# Altium schematic symbol library X.SchLib: 79 symbols
Pins are listed as number, name and electrical type; pins without a type are passive.

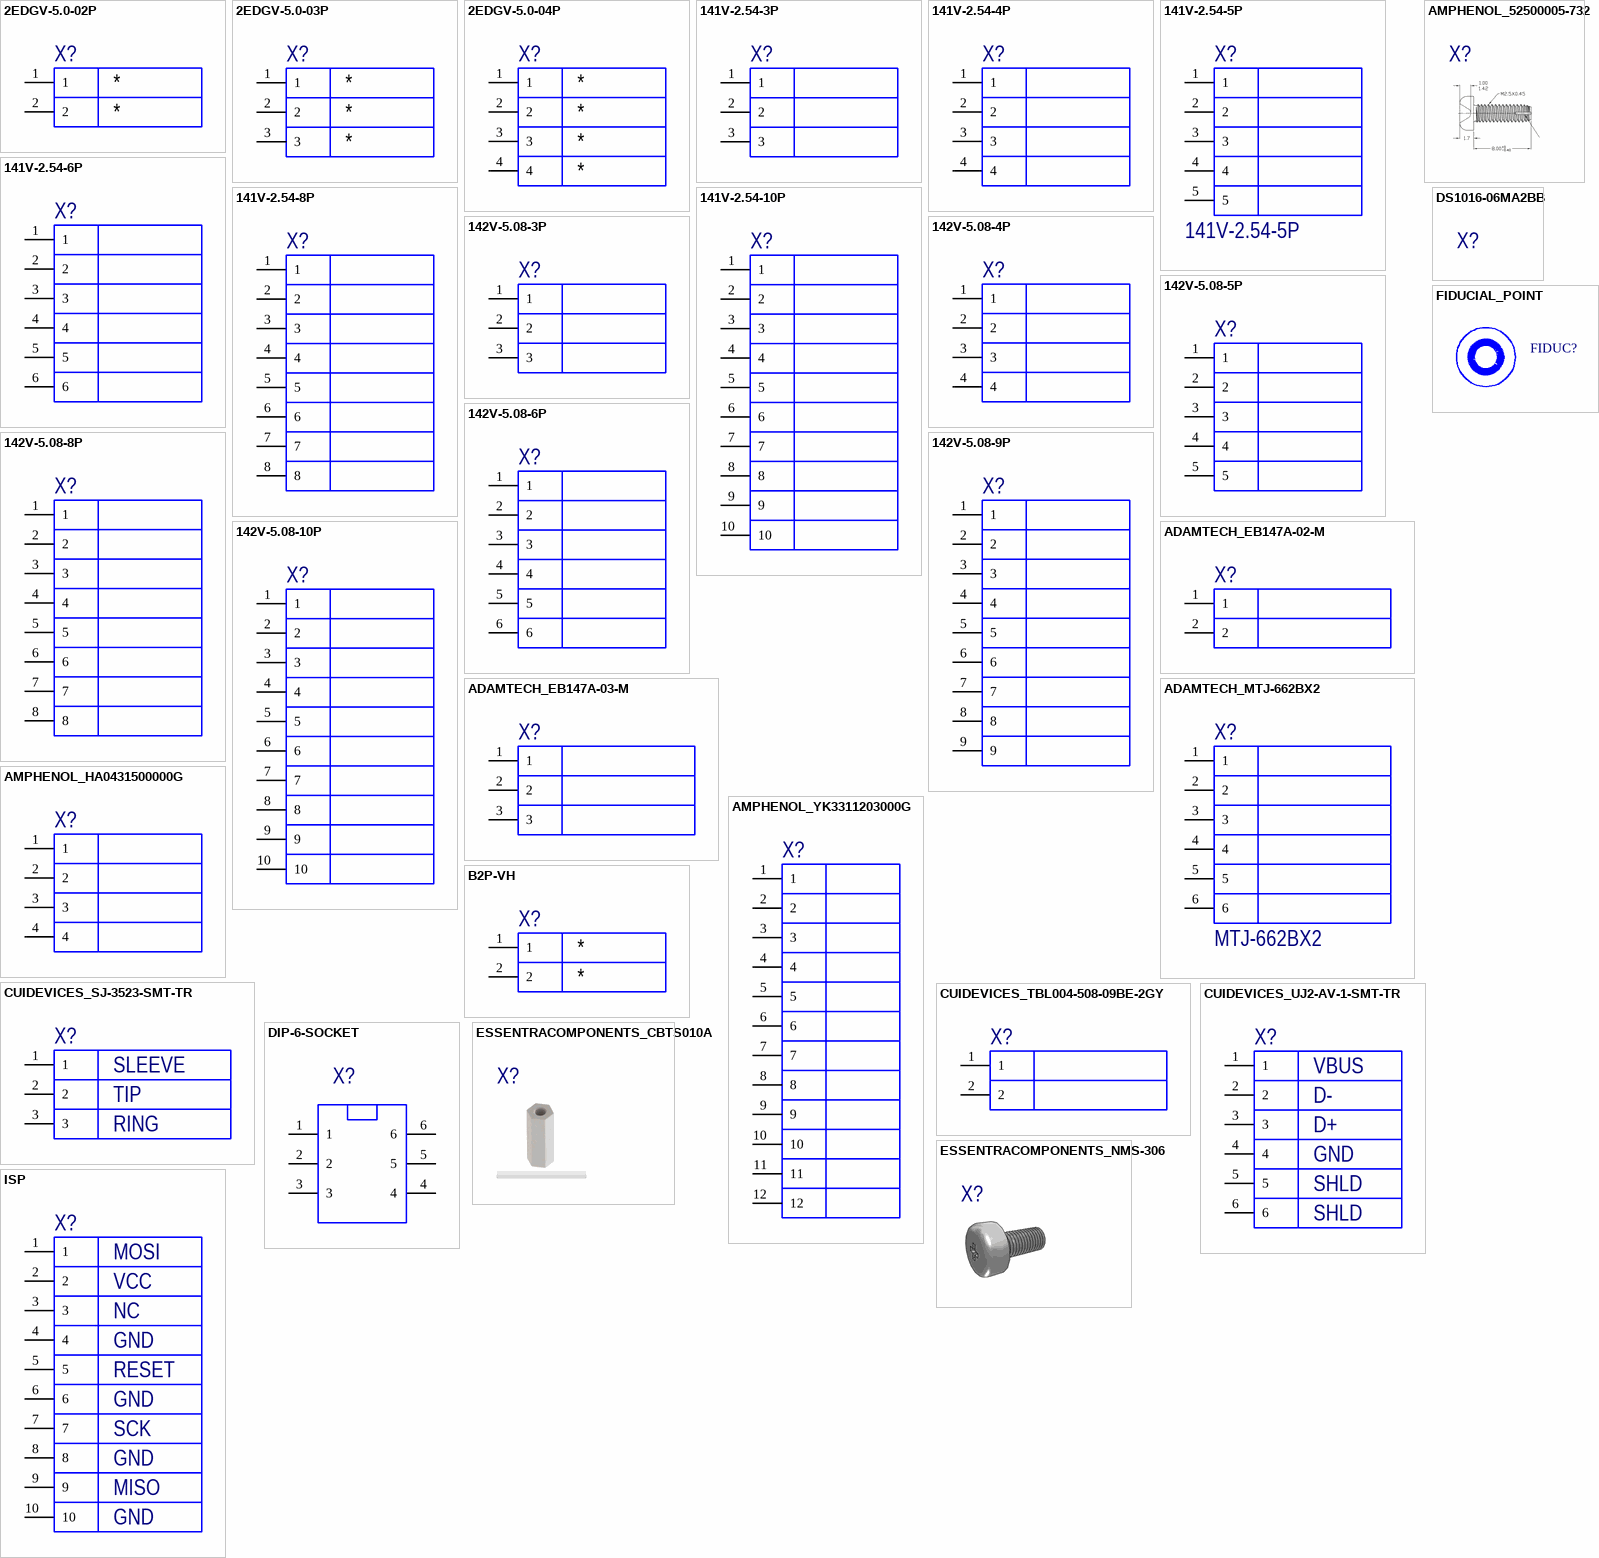
[diagram p0: symbols 2EDGV-5.0-02P to ISP]

## 2EDGV-5.0-02P
designator X?
TERM BLOCK HDR 2POS VERT 5MM; Manufacturer: Phoenix Contact; Manufacturer Part Number: 1753437; TH: 1; 1: *; 2: *
footprint 2EDGV-5.0-02P
pins: 1, 2

## 2EDGV-5.0-03P
designator X?
TERM BLOCK HDR 3POS VERT 5MM; Manufacturer: Phoenix Contact; Manufacturer Part Number: 1753453; TH: 1; 1: *; 2: *; 3: *
footprint 2EDGV-5.0-03P
pins: 1, 2, 3

## 2EDGV-5.0-04P
designator X?
TERM BLOCK HDR 4POS VERT 5MM; Manufacturer: Phoenix Contact; Manufacturer Part Number: 1753479; TH: 1; 1: *; 2: *; 3: *; 4: *
footprint 2EDGV-5.0-04P
pins: 1, 2, 3, 4

## 141V-2.54-3P
designator X?
TERM GRN 3POS RIGHT ENT 5.08MM PCB; Manufacturer Part Number: 141V-2.54-3P; Manufacturer: China
footprint 141V-2.54-3P
pins: 1, 2, 3

## 141V-2.54-4P
designator X?
TERM GRN 4POS VERTICAL 2.54MM PCB; Manufacturer Part Number: 141V-2.54-4P; Manufacturer: China; TH: 1
footprint 141V-2.54-4P (TERM BLK 4POS TOP ENT 2.54MM PCB)
pins: 1, 2, 3, 4

## 141V-2.54-5P
designator X?
TERM GRN 5POS VERTICAL 2.54MM PCB; Manufacturer: China; TH: 1; Manufacturer Part Number: 141V-2.54-5P
footprint 141V-2.54-5P (TERM BLK 5POS TOP ENT 2.54MM PCB)
pins: 1, 2, 3, 4, 5

## 141V-2.54-6P
designator X?
TERM GRN 6POS VERTICAL 2.54MM PCB; Manufacturer Part Number: 141V-2.54-6P; Manufacturer: China; TH: 1
footprint 141V-2.54-6P (TERM BLK 6POS TOP ENT 2.54MM PCB)
pins: 1, 2, 3, 4, 5, 6

## 141V-2.54-8P
designator X?
TERM GRN 8POS VERTICAL 2.54MM PCB; Manufacturer Part Number: 141V-2.54-8P; Manufacturer: China; TH: 1
footprint 141V-2.54-8P (TERM BLK 8POS TOP ENT 2.54MM PCB)
pins: 1, 2, 3, 4, 5, 6, 7, 8

## 141V-2.54-10P
designator X?
TERM GRN 10POS VERTICAL 2.54MM PCB; Manufacturer Part Number: 141V-2.54-10P; Manufacturer: China; TH: 1
footprint 141V-2.54-10P (TERM BLK 10POS TOP ENT 2.54MM PCB)
pins: 1, 2, 3, 4, 5, 6, 7, 8, 9, 10

## 142V-5.08-3P
designator X?
TERM GRN 3POS RIGHT ENT 5.08MM PCB; Manufacturer Part Number: 142R-5.08-3P; Manufacturer: China
footprint 142V-5.08-3P (TERM BLOCK 3POS VERTICAL 5.08MM PCB)
pins: 1, 2, 3

## 142V-5.08-4P
designator X?
TERM GRN 4POS VERTICAL 5.08MM PCB; Manufacturer Part Number: 142V-5.08-4P; Manufacturer: China; TH: 1
footprint 142V-5.08-4P (TERM BLOCK 4POS VERTICAL 5.08MM PCB)
pins: 1, 2, 3, 4

## 142V-5.08-5P
designator X?
TERM GRN 5POS VERTICAL 5.08MM PCB; Manufacturer Part Number: 142V-5.08-5P; Manufacturer: China; TH: 1
footprint 142V-5.08-5P (TERM BLOCK 5POS VERTICAL 5.08MM PCB)
pins: 1, 2, 3, 4, 5

## 142V-5.08-6P
designator X?
TERM GRN 6POS VERTICAL 5.08MM PCB; Manufacturer Part Number: 142V-5.08-6P; Manufacturer: China; TH: 1
footprint 142V-5.08-6P (TERM BLOCK 6POS VERTICAL 5.08MM PCB)
pins: 1, 2, 3, 4, 5, 6

## 142V-5.08-8P
designator X?
TERM GRN 8POS VERTICAL 5.08MM PCB; Manufacturer Part Number: 142V-5.08-8P; Manufacturer: China; TH: 1
footprint 142V-5.08-8P (TERM BLOCK 8POS VERTICAL 5.08MM PCB)
pins: 1, 2, 3, 4, 5, 6, 7, 8

## 142V-5.08-9P
designator X?
TERM GRN 9POS VERTICAL 5.08MM PCB; Manufacturer Part Number: 142V-5.08-9P; Manufacturer: China; TH: 1
footprint 142V-5.08-9P (TERM BLOCK 9POS VERTICAL 5.08MM PCB)
pins: 1, 2, 3, 4, 5, 6, 7, 8, 9

## 142V-5.08-10P
designator X?
TERM GRN 10POS VERTICAL 5.08MM PCB; Manufacturer Part Number: 142V-5.08-10P; Manufacturer: China; TH: 1
footprint 142V-5.08-10P (TERM BLOCK 10POS VERTICAL 5.08MM PCB)
pins: 1, 2, 3, 4, 5, 6, 7, 8, 9, 10

## ADAMTECH_EB147A-02-M
designator X?
EURO BLOCK, 2 POSITION; Manufacturer: Adam Tech; Manufacturer Part Number: EB147A-02-M; TH: 1
footprint ADAMTECH_EB147A-02-M (EURO BLOCK, 2 POSITION)
pins: 1, 2

## ADAMTECH_EB147A-03-M
designator X?
EURO BLOCK, 3 POSITION; Manufacturer: Adam Tech; Manufacturer Part Number: EB147A-03-M; TH: 1
footprint ADAMTECH_EB147A-03-M (EURO BLOCK, 3 POSITION)
pins: 1, 2, 3

## ADAMTECH_MTJ-662BX2
designator X?, comment MTJ-662BX2
CONN MOD JACK 6P6C R/A UNSHIELD; Manufacturer: Adam Tech; TH: 1; Manufacturer Part Number: MTJ-662BX2; Supplier 1: Digi-Key; Stock 1: 501; Pricing 1: 1=0,42000, 10=0,39900, 25=0,34200, 50=0,29080, 100=0,27930, 250=0,25080, 500=0,23940, 1000=0,19950, 2500=0,18240 (USD); Supplier Part Number 1: 2057-MTJ-662BX2-ND
footprint ADAMTECH_MTJ-662BX2 (CONN MOD JACK 6P6C R/A UNSHLD)
pins: 1, 2, 3, 4, 5, 6

## AMPHENOL_52500005-732
designator X?
M2.5X0.45X8MM PANHEAD BLK; Manufacturer: Amphenol Anytek; Manufacturer Part Number: 52500005-732; TH: 1
footprint AMPHENOL_52500005-732 (M2.5X0.45X8MM PANHEAD BLK)

## AMPHENOL_HA0431500000G
designator X?  (value not drawn)
TERM BLK 4POS SIDE ENTRY 5MM PCB; Manufacturer: Amphenol Anytek; Manufacturer Part Number: HA0431500000G; TH: 1
footprint AMPHENOL_HA0431500000G (TERM BLK 4POS SIDE ENTRY 5MM PCB)
pins: 1, 2, 3, 4

## AMPHENOL_YK3311203000G
designator X?
CONN BARRIER STRP 12CIRC 0.325"; Manufacturer: Amphenol Anytek; Manufacturer Part Number: YK3311203000G; TH: 1
footprint Amphenol_YK3311203000G (CONN BARRIER STRP 12CIRC 0.325")
pins: 1, 2, 3, 4, 5, 6, 7, 8, 9, 10, 11, 12

## B2P-VH
designator X?
CONN HEADER VERT 2POS 3.96MM; Manufacturer: JST Corporation; Manufacturer Part Number: B2P-VH (PWL2-02); TH: 1; 1: *; 2: *
footprint B2P-VH(PWL2-02)
pins: 1, 2

## CUIDEVICES_SJ-3523-SMT-TR
designator X?
CONN JACK STEREO 3.5MM SMD R/A; Manufacturer: CUI Devices; Manufacturer Part Number: SJ-3523-SMT-TR; TH: 1
footprint CUIDEVICES_SJ-3523-SMT-TR (CONN JACK STEREO 3.5MM SMD R/A)
pins: 1, 2, 3
text: SLEEVE; TIP; RING

## CUIDEVICES_TBL004-508-09BE-2GY
designator X?
TERMINAL BLOCK, SCREWLESS, 5.08,; Manufacturer: CUI Devices; Manufacturer Part Number: TBL004-508-09BE-2GY; TH: 1
footprint CUIDEVICES_TBL004-508-02BE-2GY (TERMINAL BLOCK, SCREWLESS, 5.08)
pins: 1, 2

## CUIDEVICES_UJ2-AV-1-SMT-TR
designator X?  (no BOM)
CONN RCPT USB2.0 TYPEA 4POS SMD; Manufacturer Part Number: UJ2-AV-1-SMT-TR; Manufacturer: CUI Devices
footprint CUIDEVICES_UJ2-AV-1-SMT-TR (CONN RCPT USB2.0 TYPEA 4POS SMD)
pins: 1, 2, 3, 4, 5, 6
text: VBUS; D-; D+; GND; SHLD

## DIP-6-SOCKET
designator X?
CONN IC DIP SOCKET 6POS GOLD; Manufacturer: Preci-Dip; Manufacturer Part Number: 110-87-306-41-001101; TH: 1
footprint DIP6
pins: 1, 2, 3, 4, 5, 6

## DS1016-06MA2BB
designator X?  (mechanical)
CONN SOCKET 20POS IDC GOLD; Manufacturer Part Number: DS1016-06MA2BB; Manufacturer: Ningbo connfly electronic (Zhenqin)

## ESSENTRACOMPONENTS_CBTS010A
designator X?  (value not drawn)
HEX STANDOFF M3 NYLON 5MM; Manufacturer Part Number: CBTS010A; Manufacturer: Essentra Components
footprint ESSENTRACOMPONENTS_CBTS010A (HEX STANDOFF M3 NYLON 5MM)

## ESSENTRACOMPONENTS_NMS-306
designator X?  (value not drawn)
MACH SCREW PAN HEAD PHILLIPS M3; Manufacturer Part Number: NMS-306; Manufacturer: Essentra Components
footprint ESSENTRACOMPONENTS_NMS-306 (MACH SCREW PAN HEAD PHILLIPS M3)

## FIDUCIAL_POINT
designator FIDUC?  (value not drawn)  (no BOM)
footprint FIDUCIAL_POINT

## ISP
designator X?  (value not drawn)
CONN HEADER VERT 10POS 2.54MM; Manufacturer: On-Shore Technology; Manufacturer Part Number: 302-S101; TH: 1
footprint 302_SERIES_10POS (2.54MM DUAL ROW VERTICAL BOX HEADER)
pins: 1, 2, 3, 4, 5, 6, 7, 8, 9, 10
text: MOSI; VCC; NC; GND; RESET; SCK; MISO

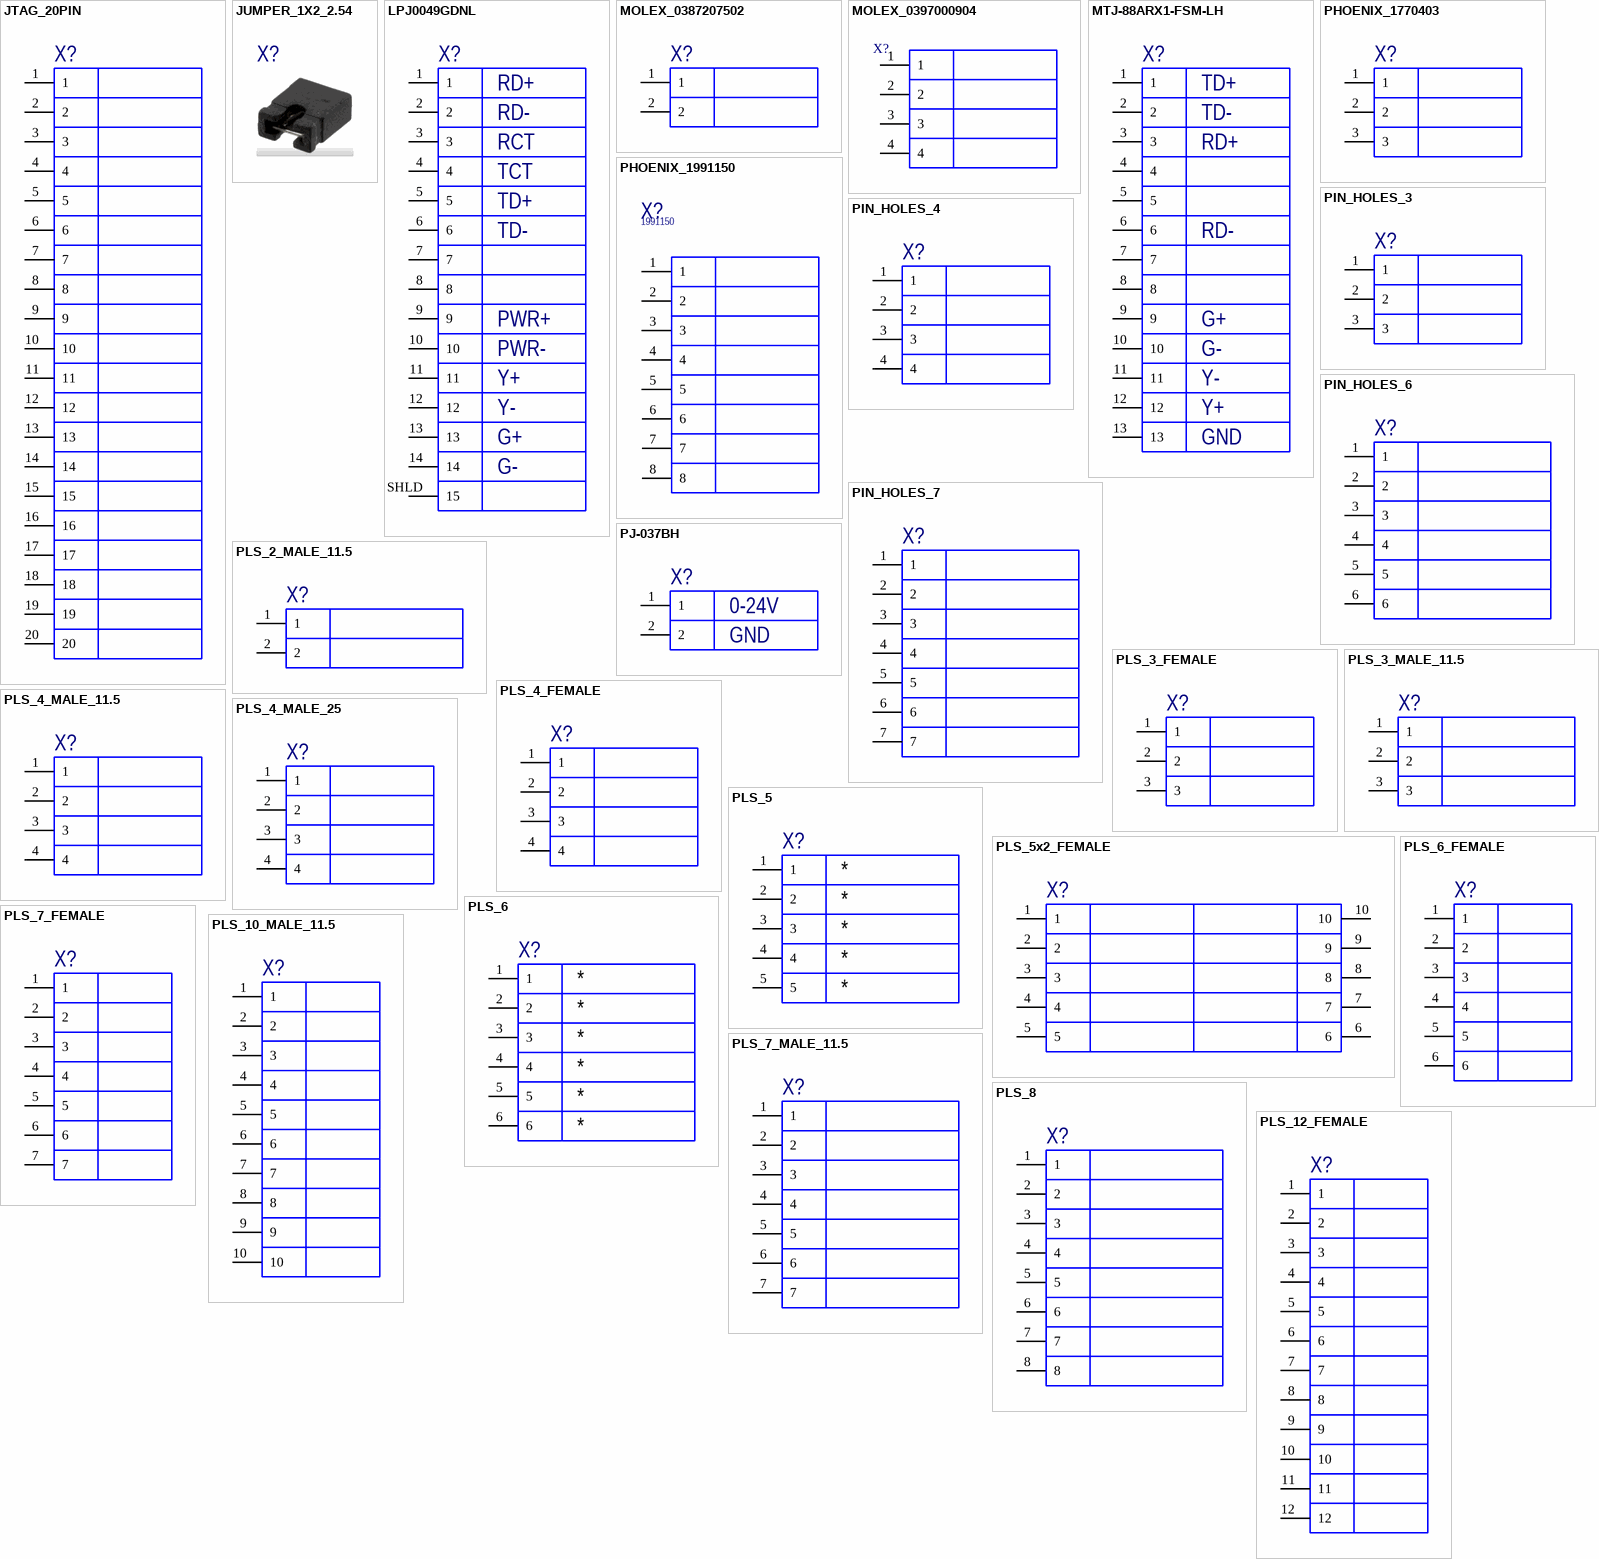
[diagram p1: symbols JTAG_20PIN to PLS_12_FEMALE]

## JTAG_20PIN
designator X?
CONN HEADER VERT 20POS 2.54MM; Manufacturer: On Shore Technology Inc.; Manufacturer Part Number: 302-S201; TH: 1
footprint 302_SERIES_20POS
pins: 1, 2, 3, 4, 5, 6, 7, 8, 9, 10, 11, 12, 13, 14, 15, 16, 17, 18, 19, 20

## JUMPER_1X2_2.54
designator X?  (mechanical)
2 (1 x 2) Position Shunt Connector Black Open Top 0.100" (2.54mm) Gold; Manufacturer Part Number: QPC02SXGN-RC; Manufacturer: Sullins Connector Solutions; TH: 1

## LPJ0049GDNL
designator X?
CONN MAGJACK 1PORT 100 BASE-T; Manufacturer Part Number: LPJ0049GDNL; Manufacturer: Link-PP INT'L Technology Co.; TH: 1
footprint LPJ0049GDNL
pins: 1, 2, 3, 4, 5, 6, 7, 8, 9, 10, 11, 12, 13, 14, SHLD 15
text: RD+; RD-; RCT; TCT; TD+; TD-; PWR+; PWR-; Y+; Y-; G+; G-

## MOLEX_0387207502
designator X?
CONN BARRIER STRIP 2CIRC 0.375"; Manufacturer Part Number: 0387207502; Manufacturer: Molex; TH: 1
footprint MOLEX_0387207502 (CONN BARRIER STRIP 2CIRC 0.375")
pins: 1, 2

## MOLEX_0397000904
designator X?  (value not drawn)
TERM BLK 4POS TOP ENTRY 5MM PCB; Manufacturer: Molex; Manufacturer Part Number: 0397000904; Supplier 1: Digi-Key; Supplier Part Number 1: WM10641-ND
footprint MOLEX_0397000904 (TERM BLK 4POS TOP ENTRY 5MM PCB)
pins: 1, 2, 3, 4

## MTJ-88ARX1-FSM-LH
designator X?
RJ45 MODULAR JACK, SHIELDED, DIP; Manufacturer Part Number: MTJ-88ARX1-FSM-LH; Manufacturer: Adam Equipment; TH: 1
footprint MTJ-88ARX1-FSM-LH
pins: 1, 2, 3, 4, 5, 6, 7, 8, 9, 10, 11, 12, 13
text: TD+; TD-; RD+; RD-; G+; G-; Y-; Y+; GND

## PHOENIX_1770403
designator X?
TERM BLK 3P SIDE ENTRY 10MM PCB; Manufacturer Part Number: 1770403; Manufacturer: Phoenix Contact; TH: 1
footprint PHOENIX_1770403 (TERM BLK 3P SIDE ENTRY 10MM PCB)
pins: 1, 2, 3

## PHOENIX_1991150
designator X?, comment 1991150
TERM GRN 8POS VERTICAL 5MM PCB; Manufacturer: Phoenix Contact; Voltage Rating: 400V; Number of Positions: 8; Current Rating: 24A; Number of Levels: 1; Current: 20A; Voltage: 300V; Wire Gauge (Max): 24AWG; Wire Gauge (Min): 12AWG; Stripping Length: 10mm; Approvals: UL,CB,EAC; Supplier 1: Arrow Electronics; Manufacturer Part Number: 1991150; RoHS: Yes; Category: Terminal Blocks; Stock 1: 4; Pricing 1: 1=3,59490, 50=4,65000, 500=4,46100, 5000=3,37100, 25000=2,82400, 50000=2,82000 (USD); Mount: Through Hole; Color: Green; Weight: 0.376726oz; Housing Color: Green; Housing Material: Nylon; Packaging: Bulk; Termination: Screwless; Package Quantity: 1; Number of Contacts: 8; Series: COMBICON SPT; Number of Rows: 1; Max Current Rating: 24A; Number of Positions Per Level: 8; Orientation: Straight; Number of Poles: 8; Number of Circuits: 8; Length: 41.4mm; Width: 14.4mm; Depth: 13.5mm; Pitch: 5mm; RoHS Compliant: Yes; Lead Free: Lead Free; ComponentLink1URL: https://datasheet.ciiva.com/11758/0900766b80ffd320-11758630.pdf?src-supplier=RSComponents; ComponentLink1Description: https://datasheet.ciiva.com/11758/0900766b80ffd320-11758630.pdf?src-supplier=RSComponents; ComponentLink2URL: https://datasheet.ciiva.com/832/1991150-832407.pdf?src-supplier=Digi-Key; ComponentLink2Description: https://datasheet.ciiva.com/832/1991150-832407.pdf?src-supplier=Digi-Key; ComponentLink3URL: https://datasheet.ciiva.com/16051/1991150-16051386.pdf?src-supplier=Onlinecomponents.com; ComponentLink3Description: https://datasheet.ciiva.com/16051/1991150-16051386.pdf?src-supplier=Onlinecomponents.com; ComponentLink4URL: https://datasheet.ciiva.com/29312/788935-da-01-de-printklemme-1991150-50-st-29312443.pdf?src-supplier=Conrad; ComponentLink4Description: https://datasheet.ciiva.com/29312/788935-da-01-de-printklemme-1991150-50-st-29312443.pdf?src-supplier=Conrad; Supplier Part Number 1: 1991150
footprint PHOENIX_1991150 (TERM BLK 8POS TOP ENTRY 5MM PCB)
pins: 1, 2, 3, 4, 5, 6, 7, 8

## PIN_HOLES_3
designator X?  (no BOM)
footprint PIN_HOLES_3
pins: 1, 2, 3

## PIN_HOLES_4
designator X?  (no BOM)
footprint PIN_HOLES_4
pins: 1, 2, 3, 4

## PIN_HOLES_6
designator X?  (no BOM)
footprint PIN_HOLES_6
pins: 1, 2, 3, 4, 5, 6

## PIN_HOLES_7
designator X?  (no BOM)
footprint PIN_HOLES_7
pins: 1, 2, 3, 4, 5, 6, 7

## PJ-037BH
designator X?
CONN PWR JACK 2.5X5.5MM SOLDER; Manufacturer: CUI; Manufacturer Part Number: PJ-037BH; TH: 1
footprint PJ-037BH
pins: 1, 2
text: 0-24V; GND

## PLS_2_MALE_11.5
designator X?  (value not drawn)
CONN HEADER VERT 2POS 2.54MM; Manufacturer: Wurth Electronics; Manufacturer Part Number: 61300211121; TH: 1
footprint PLS_2_MALE_11.2
pins: 1, 2

## PLS_3_FEMALE
designator X?
CONN RCPT 3POS 0.1 TIN PCB; Manufacturer: Samtec Inc.; Manufacturer Part Number: SSW-103-01-T-S; TH: 1
footprint PLS_3_FEMALE
pins: 1, 2, 3

## PLS_3_MALE_11.5
designator X?, comment PLS_2_MALE_11.5  (value not drawn)
CONN HEADER VERT 3POS 2.54MM; Manufacturer: Wurth Electronics; Manufacturer Part Number: 61300311121; TH: 1
footprint PLS_3_MALE_11.2
pins: 1, 2, 3

## PLS_4_FEMALE
designator X?
CONN RCPT 4POS 0.1 GOLD PCB; Manufacturer: Samtec Inc.; Manufacturer Part Number: SSW-104-01-G-S; TH: 1
footprint PLS_4_FEMALE
pins: 1, 2, 3, 4

## PLS_4_MALE_11.5
designator X?, comment 61300411121  (value not drawn)
CONN HEADER VERT 4POS 2.54MM; Manufacturer: Würth Elektronik; TH: 1; Manufacturer Part Number: 61300411121
footprint PLS_4_MALE_11.2
pins: 1, 2, 3, 4

## PLS_4_MALE_25
designator X?, comment 87241-104HLF  (value not drawn)
CONN HEADER VERT 4POS 2.54MM; Manufacturer: Amphenol ICC (FCI); TH: 1; Manufacturer Part Number: 87241-104HLF
footprint PLS_4_MALE_25
pins: 1, 2, 3, 4

## PLS_5
designator X?  (value not drawn)
CONN HEADER VERT 5POS 2.54MM; Manufacturer: Wurth Electronics; Manufacturer Part Number: 732-5320-ND; TH: 1; 1: *; 2: *; 3: *; 4: *; 5: *
footprint PLS_5
pins: 1, 2, 3, 4, 5

## PLS_5x2_FEMALE
designator X?
RECEPTACLE STRIP 8P 2.54MM PITCH; Manufacturer: Adam Tech; Manufacturer Part Number: RS2-10-G; TH: 1
footprint PLS_5x2_FEMALE
pins: 1, 2, 3, 4, 5, 6, 7, 8, 9, 10

## PLS_6
designator X?  (value not drawn)
CONN HEADER VERT 6POS 2.54MM; Manufacturer: Wurth Electronics; Manufacturer Part Number: 732-5320-ND; TH: 1; 1: *; 2: *; 3: *; 4: *; 5: *; 6: *
footprint PLS_6_MALE_11.2
pins: 1, 2, 3, 4, 5, 6

## PLS_6_FEMALE
designator X?  (value not drawn)
CONN RCPT 6POS 0.1 GOLD PCB; Manufacturer: TE Connectivity AMP Connectors; Manufacturer Part Number: 534237-4; TH: 1
footprint PLS_6_FEMALE
pins: 1, 2, 3, 4, 5, 6

## PLS_7_FEMALE
designator X?  (value not drawn)
CONN RCPT 7POS 0.1 GOLD PCB; Manufacturer: TE Connectivity AMP Connectors; Manufacturer Part Number: 534237-5; TH: 1
footprint PLS_7_FEMALE
pins: 1, 2, 3, 4, 5, 6, 7

## PLS_7_MALE_11.5
designator X?, comment PLS_7  (value not drawn)
CONN HEADER VERT 7POS 2.54MM; Manufacturer: Wurth Electronics; Manufacturer Part Number: 732-5320-ND; TH: 1
footprint PLS_7_MALE_11.2
pins: 1, 2, 3, 4, 5, 6, 7

## PLS_8
designator X?  (value not drawn)
CONN HEADER VERT 8POS 2.54MM; Manufacturer: Wurth Electronics; Manufacturer Part Number: 61300811121; TH: 1
footprint PLS_8
pins: 1, 2, 3, 4, 5, 6, 7, 8

## PLS_10_MALE_11.5
designator X?
CONN HEADER VERT 10POS 2.54MM; Manufacturer Part Number: 61301011121; Manufacturer: Würth Elektronik; TH: 1
pins: 1, 2, 3, 4, 5, 6, 7, 8, 9, 10

## PLS_12_FEMALE
designator X?  (value not drawn)
CONN RCPT 12POS 0.1 GOLD PCB; Manufacturer: TE Connectivity AMP Connectors; Manufacturer Part Number: 1-534237-0; TH: 1
footprint PLS_12_FEMALE
pins: 1, 2, 3, 4, 5, 6, 7, 8, 9, 10, 11, 12

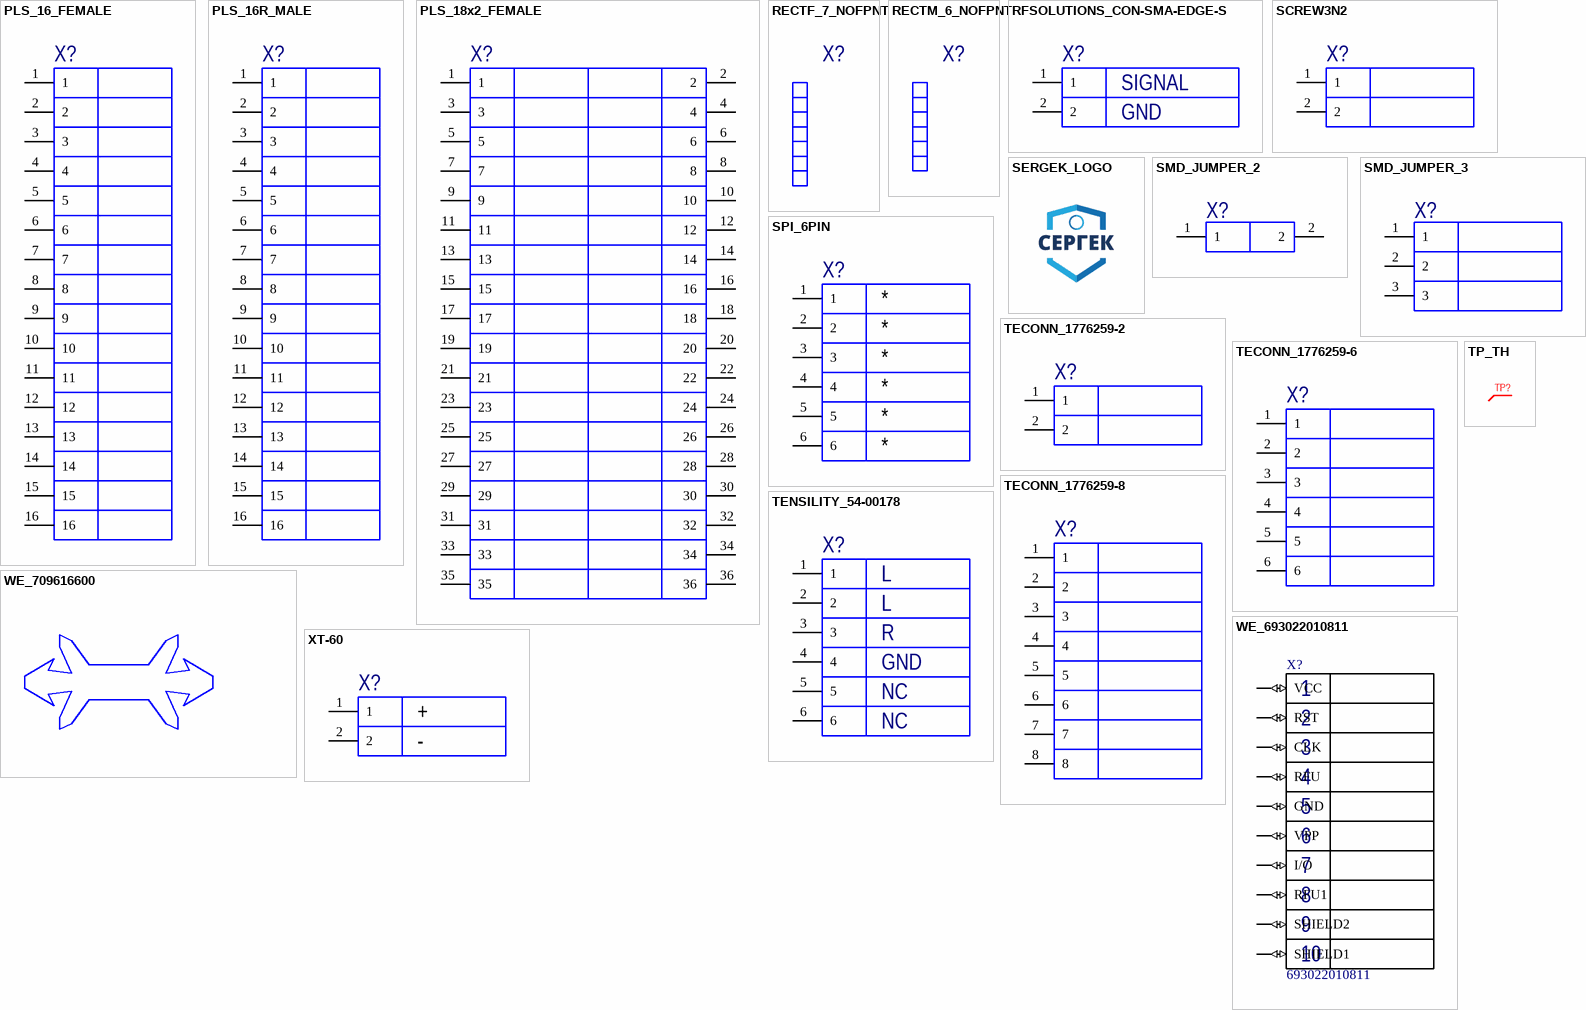
[diagram p2: symbols PLS_16_FEMALE to XT-60]

## PLS_16_FEMALE
designator X?  (value not drawn)
CONN RCPT 16POS 0.1 GOLD PCB; Manufacturer: TE Connectivity AMP Connectors; Manufacturer Part Number: 1-534237-4; TH: 1
footprint PLS_16_FEMALE
pins: 1, 2, 3, 4, 5, 6, 7, 8, 9, 10, 11, 12, 13, 14, 15, 16

## PLS_16R_MALE
designator X?, comment PLS_16_FEMALE  (value not drawn)
CONN HEADER R/A 16POS 2.54MM; Manufacturer: Würth Elektronik; Manufacturer Part Number: 61301611021; TH: 1
footprint PLS_16R_MALE_6 (CONN HEADER R/A 16POS 2.54MM)
pins: 1, 2, 3, 4, 5, 6, 7, 8, 9, 10, 11, 12, 13, 14, 15, 16

## PLS_18x2_FEMALE
designator X?  (value not drawn)
CONN HDR 36POS 0.1 TIN PCB; Manufacturer: Sullins Connector Solutions; Manufacturer Part Number: PPTC182LFBN-RC; TH: 1
footprint PLS_18x2_FEMALE
pins: 1, 2, 3, 4, 5, 6, 7, 8, 9, 10, 11, 12, 13, 14, 15, 16, 17, 18, 19, 20, 21, 22, 23, 24, 25, 26, 27, 28, 29, 30, 31, 32, 33, 34, 35, 36

## RECTF_7_NOFPNT
designator X?  (value not drawn)  (mechanical)
CONN HDR 7POS 0.1 TIN PCB; Manufacturer: Sullins Connector Solutions; Manufacturer Part Number: PPTC071LFBN-RC; TH: 1

## RECTM_6_NOFPNT
designator X?  (value not drawn)  (mechanical)
CONN HDR 6POS 0.1 TIN PCB; Manufacturer: Sullins Connector Solutions; Manufacturer Part Number: PPTC061LFBN-RC; TH: 1

## RFSOLUTIONS_CON-SMA-EDGE-S
designator X?
CONN SMA JACK STR EDGE MNT; Manufacturer: RF Solutions; Manufacturer Part Number: CON-SMA-EDGE-S; TH: 1
footprint RFSOLUTIONS_CON-SMA-EDGE-S (CONN SMA JACK STR EDGE MNT)
pins: 1, 2
text: SIGNAL; GND

## SCREW3N2
designator X?  (value not drawn)
footprint SCREW3N2
pins: 1, 2

## SERGEK_LOGO
designator *  (no BOM)
SERGEK_LOGO
footprint SERGEK_LOGO

## SMD_JUMPER_2
designator X?  (no BOM)
SMD JUMPER
footprint SMD_JUMPER_2
pins: 1, 2

## SMD_JUMPER_3
designator X?  (no BOM)
SMD JUMPER
footprint SMD_JUMPER_3
pins: 1, 2, 3

## SPI_6PIN
designator X?
CONN HEADER VERT 6POS 2.54MM; Manufacturer: Ningbo connfly electronic (Zhenqin); Manufacturer Part Number: DS1013-06SSiB1-B-0; TH: 1; 1: *; 2: *; 3: *; 4: *; 5: *; 6: *
footprint 302_SERIES_6POS (2.54MM DUAL ROW VERTICAL BOX HEADER)
pins: 1, 2, 3, 4, 5, 6

## TECONN_1776259-2
designator X?
TERM BLK 2POS TOP ENTRY 5MM PCB; Manufacturer Part Number: 1776259-2; Manufacturer: TE Connectivity AMP Connectors; TH: 1
footprint TECONN_1776259-2 (TERM BLK 2POS TOP ENTRY 5MM PCB)
pins: 1, 2

## TECONN_1776259-6
designator X?
TERM BLK 6POS TOP ENTRY 5MM PCB; Manufacturer Part Number: 1776259-6; Manufacturer: TE Connectivity AMP Connectors; TH: 1
footprint TECONN_1776259-6 (TERM BLK 6POS TOP ENTRY 5MM PCB)
pins: 1, 2, 3, 4, 5, 6

## TECONN_1776259-8
designator X?
TERM BLK 8POS TOP ENTRY 5MM PCB; Manufacturer Part Number: 1776259-8; Manufacturer: TE Connectivity AMP Connectors; TH: 1
footprint TECONN_1776259-8 (TERM BLK 2POS TOP ENTRY 5MM PCB)
pins: 1, 2, 3, 4, 5, 6, 7, 8

## TENSILITY_54-00178
designator X?
CONN JACK STEREO 3.5MM SMD R/A; Manufacturer: Tensility International Corp; Manufacturer Part Number: 54-00178; SMD: 1
footprint TENSILITY_54-00178
pins: 1, 2, 3, 4, 5, 6
text: L; R; GND; NC

## TP_TH
designator TP?  (no BOM)
TEST POINT THROUGH HOLE
footprint TH_TP
pins: 1 TP

## WE_709616600
designator SPACER?  (mechanical)
SNAP-ON STOP SPACER, ARRESTING; Manufacturer Part Number: 709616600; Manufacturer: Würth Elektronik

## WE_693022010811
designator X?, comment 693022010811
CONN SMART CARD; Manufacturer: Wurth Electronics; Number of Positions: 8; Connector Type: Connector; Value: *; MP: 693022010811; Availability: Unavailable; Package: None; Price: None; Supplier 1: Digi-Key; Manufacturer Part Number: 693022010811; RoHS: Yes; Category: Memory Connectors; Stock 1: 2727; Pricing 1: 1=1,77000, 10=1,62500, 50=1,50500, 100=1,38500, 500=1,20400 (USD); Mount: Surface Mount; Number of Pins: 8; Contact Material: Copper Alloy; Contact Plating: Gold; Packaging: Cut Tape; Number of Contacts: 8; Features: Shielded; REACH SVHC: Unknown; RoHS Compliant: Yes; ComponentLink1URL: https://www.distrelec.biz/Web/Downloads/40/11/693022010811.pdf?mime=application%2Fpdf&src-supplier=Distrelec; ComponentLink1Description: https://www.distrelec.biz/Web/Downloads/40/11/693022010811.pdf?mime=application%2Fpdf&src-supplier=Distrelec; ComponentLink2URL: https://katalog.we-online.de/em/datasheet/693022010811.pdf?src-supplier=Digi-Key; ComponentLink2Description: https://katalog.we-online.de/em/datasheet/693022010811.pdf?src-supplier=Digi-Key; ComponentLink3URL: http://www.farnell.com/cad/1889809.pdf?src-supplier=Element14; ComponentLink3Description: http://www.farnell.com/cad/1889809.pdf?src-supplier=Element14; Supplier Part Number 1: 732-5957-1-ND
footprint WURTH_693022010811 (8 Position Card Connector Micro SIM Surface Mount, Right Angle Gold)
pins: C1 VCC (io), C2 RST (io), C3 CLK (io), C4 RFU (io), C5 GND (io), C6 VPP (io), C7 I/O (io), C8 RFU1 (io), S1 SHIELD1 (io), S2 SHIELD2 (io)
text: 1; 2; 3; 4; 5; 6; 7; 9; 10

## XT-60
designator X?  1: +
TERM BLOCK HDR 2POS VERT 7MM; Manufacturer: Amass Electronics; Manufacturer Part Number: XT60-F.G2.Y; TH: 1; 2: -
footprint XT-60
pins: 1, 2